# EAGLE library part TERMINAL8 (library systas0)
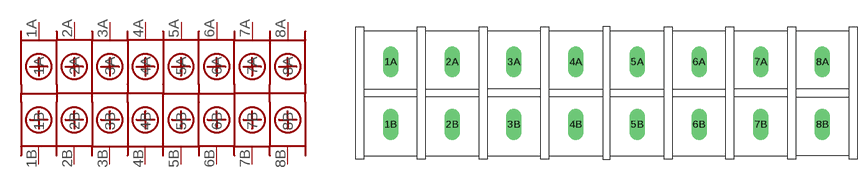
[diagram p25: symbol with the pads of TERMINAL8; footprint TERMINAL8]

Designator prefix -

## TERMINAL8  [TERMINAL8]
1A  1A
1B  1B
2A  2A
2B  2B
3A  3A
3B  3B
4A  4A
4B  4B
5A  5A
5B  5B
6A  6A
6B  6B
7A  7A
7B  7B
8A  8A
8B  8B

## Footprint TERMINAL8 (pad centres in mm)
drill 1.2 pad 2.54 long: 1A -35.004,5.08; 1B -35.004,-5.08; 2A -25.003,5.08; 2B -25.003,-5.08; 3A -15.002,5.08; 3B -15.002,-5.08; 4A -5.001,5.08; 4B -5.001,-5.08; 5A 5.001,5.08; 5B 5.001,-5.08; 6A 15.002,5.08; 6B 15.002,-5.08; 7A 25.003,5.08; 7B 25.003,-5.08; 8A 35.004,5.08; 8B 35.004,-5.08